# Altium footprint library Capacitors.PcbLib: 3 footprints
Each footprint in its own frame and in the unit in brackets; x right, y up, seen from the top. Pads: shape width x height; smd on the part's side, far side on the other; paste and mask are expansions set on the pad; w line width, h text height; cw(c..) or ccw(c..) is an arc to the next point about the centre after c.
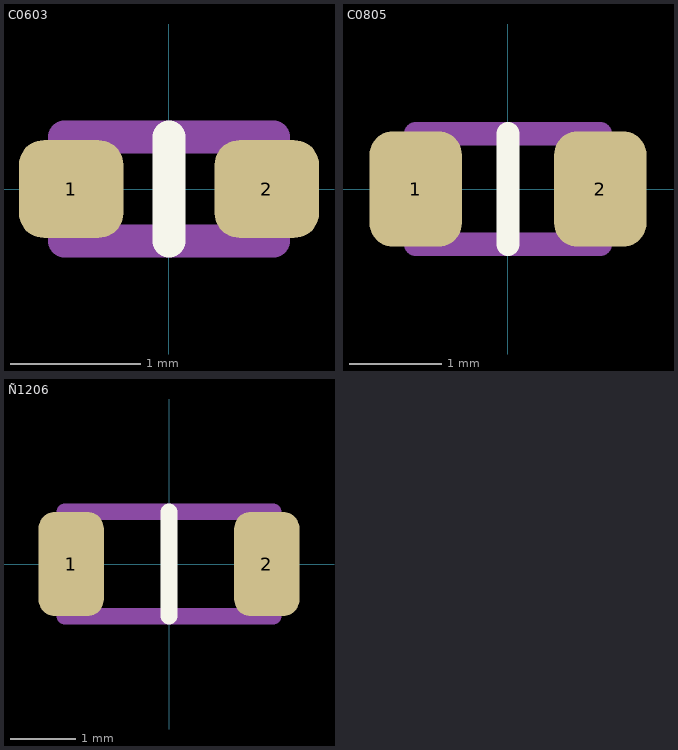
[diagram p0: the footprints below, top view; thin cyan lines are the x and y axes]

## C0603 [mm] "Chip_Capasitor_0603"
height 0.9
pads (2):
  rrect50% 0.8x0.75 smd mask+0.102: 1(-0.75,0) 2(0.75,0)
Top Overlay:
  lines w0.254: 0,-0.4 0,0.4
Mechanical 1:
  lines w0.254: -0.8,-0.4 -0.8,0.4 0.8,0.4 0.8,-0.4 -0.8,-0.4
3D body "Cap_Ceramic_0603.step": height 0.8, standoff 0, extent -0.8,-0.4 0.8,0.4

## C0805 [mm] "Chip_Capasitor_0805"
pads (2):
  rrect50% 1x1.25 smd mask+0.102: 1(-1,0) 2(1,0)
Top Overlay:
  lines w0.254: 0,-0.6 0,0.6
Mechanical 1:
  lines w0.254: -1,-0.6 -1,0.6 1,0.6 1,-0.6 -1,-0.6
3D body "Cap_SMD_0805.step": height 1.35, standoff 0.06, extent -1,-0.645 1,0.645

## Ñ1206 [mm] "Chip_Capasitor_1206"
height 1.5
pads (2):
  rrect50% 1x1.6 smd mask+0.102: 1(-1.5,0) 2(1.5,0)
Top Overlay:
  lines w0.254: 0,-0.8 0,0.8
Mechanical 1:
  lines w0.254: -1.6,-0.8 1.6,-0.8 1.6,0.8 -1.6,0.8 -1.6,-0.8
3D body "Cap_SMD_1206_2.step": height 1.11, standoff -0.01, extent -1.6,-0.81 1.6,0.81